# Altium footprint library MKE18F512VLH16.PcbLib: 3 footprints
Each footprint in its own frame and in the unit in brackets; x right, y up, seen from the top. Pads: shape width x height; smd on the part's side, far side on the other; paste and mask are expansions set on the pad; w line width, h text height; cw(c..) or ccw(c..) is an arc to the next point about the centre after c.
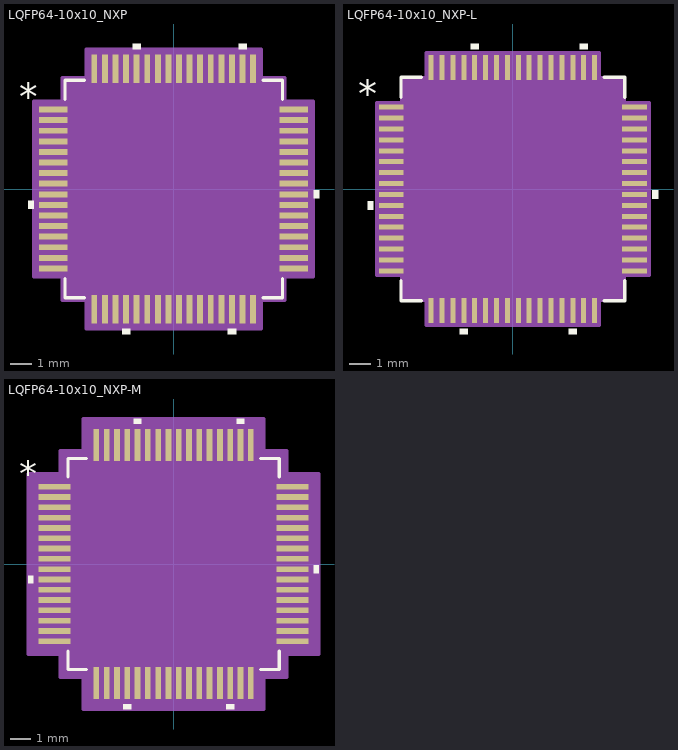
[diagram p0: the footprints below, top view; thin cyan lines are the x and y axes]

## LQFP64-10x10_NXP [mil]
pads (64):
  rect 53x11 smd paste+0 mask+0: 1(-223.5,147.64) 2(-223.5,127.95) 3(-223.5,108.27) 4(-223.5,88.58) 5(-223.5,68.9) 6(-223.5,49.21) 7(-223.5,29.53) 8(-223.5,9.84) 9(-223.5,-9.84) 10(-223.5,-29.53) 11(-223.5,-49.21) 12(-223.5,-68.9) 13(-223.5,-88.58) 14(-223.5,-108.27) 15(-223.5,-127.95) 16(-223.5,-147.64) 33(223.5,-147.64) 34(223.5,-127.95) 35(223.5,-108.27) 36(223.5,-88.58) 37(223.5,-68.9) 38(223.5,-49.21) 39(223.5,-29.53) 40(223.5,-9.84) 41(223.5,9.84) 42(223.5,29.53) 43(223.5,49.21) 44(223.5,68.9) 45(223.5,88.58) 46(223.5,108.27) 47(223.5,127.95) 48(223.5,147.64)
  rect 11x53 smd paste+0 mask+0: 17(-147.64,-223.5) 18(-127.95,-223.5) 19(-108.27,-223.5) 20(-88.58,-223.5) 21(-68.9,-223.5) 22(-49.21,-223.5) 23(-29.53,-223.5) 24(-9.84,-223.5) 25(9.84,-223.5) 26(29.53,-223.5) 27(49.21,-223.5) 28(68.9,-223.5) 29(88.58,-223.5) 30(108.27,-223.5) 31(127.95,-223.5) 32(147.64,-223.5) 49(147.64,223.5) 50(127.95,223.5) 51(108.27,223.5) 52(88.58,223.5) 53(68.9,223.5) 54(49.21,223.5) 55(29.53,223.5) 56(9.84,223.5) 57(-9.84,223.5) 58(-29.53,223.5) 59(-49.21,223.5) 60(-68.9,223.5) 61(-88.58,223.5) 62(-108.27,223.5) 63(-127.95,223.5) 64(-147.64,223.5)
Top Overlay:
  region: -260,-22.03 -270,-22.03 -270,-37.03 -260,-37.03
  region: -81.08,-260 -96.08,-260 -96.08,-270 -81.08,-270
  region: 115.77,-260 100.77,-260 100.77,-270 115.77,-270
  region: 260,-2.34 270,-2.34 270,-17.34 260,-17.34
  region: 135.45,260 120.45,260 120.45,270 135.45,270
  region: -61.4,260 -76.4,260 -76.4,270 -61.4,270
  lines w6: -202,-166.24 -202,-202 -166.24,-202 ; -202,166.24 -202,202 -166.24,202 ; 166.24,-202 202,-202 202,-166.24 ; 166.24,202 202,202 202,166.24
  text "*" at -287.5,147.48 h50
Mechanical 13:
  drawing of 265 lines, arcs and shapes, not listed
  text "*" at -194.5,132.48 h50
Mechanical 15:
  region: -163.14,-207 -207,-207 -207,-163.14 -260,-163.14 -260,163.14 -207,163.14 -207,207 -163.14,207 -163.14,260 163.14,260 163.14,207 207,207 207,163.14 260,163.14 260,-163.14 207,-163.14 207,-207 163.14,-207 163.14,-260 -163.14,-260
  lines w6: -260,-163.14 -207,-163.14 -207,-207 -163.14,-207 -163.14,-260 163.14,-260 163.14,-207 207,-207 207,-163.14 260,-163.14 260,163.14 207,163.14 207,207 163.14,207 163.14,260 -163.14,260 -163.14,207 -207,207 -207,163.14 -260,163.14 -260,-163.14
3D body "LQFP64-10x10_NXP.step": height 63.11, standoff 0, extent -235.98,-235.98 235.98,235.98

## LQFP64-10x10_NXP-L [mil]
pads (64):
  rect 45x9 smd paste+0 mask+0: 1(-219.5,147.64) 2(-219.5,127.95) 3(-219.5,108.27) 4(-219.5,88.58) 5(-219.5,68.9) 6(-219.5,49.21) 7(-219.5,29.53) 8(-219.5,9.84) 9(-219.5,-9.84) 10(-219.5,-29.53) 11(-219.5,-49.21) 12(-219.5,-68.9) 13(-219.5,-88.58) 14(-219.5,-108.27) 15(-219.5,-127.95) 16(-219.5,-147.64) 33(219.5,-147.64) 34(219.5,-127.95) 35(219.5,-108.27) 36(219.5,-88.58) 37(219.5,-68.9) 38(219.5,-49.21) 39(219.5,-29.53) 40(219.5,-9.84) 41(219.5,9.84) 42(219.5,29.53) 43(219.5,49.21) 44(219.5,68.9) 45(219.5,88.58) 46(219.5,108.27) 47(219.5,127.95) 48(219.5,147.64)
  rect 9x45 smd paste+0 mask+0: 17(-147.64,-219.5) 18(-127.95,-219.5) 19(-108.27,-219.5) 20(-88.58,-219.5) 21(-68.9,-219.5) 22(-49.21,-219.5) 23(-29.53,-219.5) 24(-9.84,-219.5) 25(9.84,-219.5) 26(29.53,-219.5) 27(49.21,-219.5) 28(68.9,-219.5) 29(88.58,-219.5) 30(108.27,-219.5) 31(127.95,-219.5) 32(147.64,-219.5) 49(147.64,219.5) 50(127.95,219.5) 51(108.27,219.5) 52(88.58,219.5) 53(68.9,219.5) 54(49.21,219.5) 55(29.53,219.5) 56(9.84,219.5) 57(-9.84,219.5) 58(-29.53,219.5) 59(-49.21,219.5) 60(-68.9,219.5) 61(-88.58,219.5) 62(-108.27,219.5) 63(-127.95,219.5) 64(-147.64,219.5)
Top Overlay:
  region: -252,-22.03 -262,-22.03 -262,-37.03 -252,-37.03
  region: -81.08,-252 -96.08,-252 -96.08,-262 -81.08,-262
  region: 115.77,-252 100.77,-252 100.77,-262 115.77,-262
  region: 252,-2.34 262,-2.34 262,-17.34 252,-17.34
  region: 135.45,252 120.45,252 120.45,262 135.45,262
  region: -61.4,252 -76.4,252 -76.4,262 -61.4,262
  lines w6: -202,-165.24 -202,-202 -165.24,-202 ; -202,165.24 -202,202 -165.24,202 ; 165.24,-202 202,-202 202,-165.24 ; 165.24,202 202,202 202,165.24
  text "*" at -279.5,147.48 h50
Mechanical 13:
  drawing of 261 lines, arcs and shapes, not listed
  text "*" at -194.5,132.48 h50
Mechanical 15:
  region: -156.14,-201 -201,-201 -201,-156.14 -246,-156.14 -246,156.14 -201,156.14 -201,201 -156.14,201 -156.14,246 156.14,246 156.14,201 201,201 201,156.14 246,156.14 246,-156.14 201,-156.14 201,-201 156.14,-201 156.14,-246 -156.14,-246
  lines w6: -246,-156.14 -201,-156.14 -201,-201 -156.14,-201 -156.14,-246 156.14,-246 156.14,-201 201,-201 201,-156.14 246,-156.14 246,156.14 201,156.14 201,201 156.14,201 156.14,246 -156.14,246 -156.14,201 -201,201 -201,156.14 -246,156.14 -246,-156.14
3D body "LQFP64-10x10_NXP.step": height 63.11, standoff 0, extent -235.98,-235.98 235.98,235.98

## LQFP64-10x10_NXP-M [mil]
pads (64):
  rect 61x11 smd paste+0 mask+0: 1(-227.5,147.64) 2(-227.5,127.95) 3(-227.5,108.27) 4(-227.5,88.58) 5(-227.5,68.9) 6(-227.5,49.21) 7(-227.5,29.53) 8(-227.5,9.84) 9(-227.5,-9.84) 10(-227.5,-29.53) 11(-227.5,-49.21) 12(-227.5,-68.9) 13(-227.5,-88.58) 14(-227.5,-108.27) 15(-227.5,-127.95) 16(-227.5,-147.64) 33(227.5,-147.64) 34(227.5,-127.95) 35(227.5,-108.27) 36(227.5,-88.58) 37(227.5,-68.9) 38(227.5,-49.21) 39(227.5,-29.53) 40(227.5,-9.84) 41(227.5,9.84) 42(227.5,29.53) 43(227.5,49.21) 44(227.5,68.9) 45(227.5,88.58) 46(227.5,108.27) 47(227.5,127.95) 48(227.5,147.64)
  rect 11x61 smd paste+0 mask+0: 17(-147.64,-227.5) 18(-127.95,-227.5) 19(-108.27,-227.5) 20(-88.58,-227.5) 21(-68.9,-227.5) 22(-49.21,-227.5) 23(-29.53,-227.5) 24(-9.84,-227.5) 25(9.84,-227.5) 26(29.53,-227.5) 27(49.21,-227.5) 28(68.9,-227.5) 29(88.58,-227.5) 30(108.27,-227.5) 31(127.95,-227.5) 32(147.64,-227.5) 49(147.64,227.5) 50(127.95,227.5) 51(108.27,227.5) 52(88.58,227.5) 53(68.9,227.5) 54(49.21,227.5) 55(29.53,227.5) 56(9.84,227.5) 57(-9.84,227.5) 58(-29.53,227.5) 59(-49.21,227.5) 60(-68.9,227.5) 61(-88.58,227.5) 62(-108.27,227.5) 63(-127.95,227.5) 64(-147.64,227.5)
Top Overlay:
  region: -268,-22.03 -278,-22.03 -278,-37.03 -268,-37.03
  region: -81.08,-268 -96.08,-268 -96.08,-278 -81.08,-278
  region: 115.77,-268 100.77,-268 100.77,-278 115.77,-278
  region: 268,-2.34 278,-2.34 278,-17.34 268,-17.34
  region: 135.45,268 120.45,268 120.45,278 135.45,278
  region: -61.4,268 -76.4,268 -76.4,278 -61.4,278
  lines w6: -202,-166.24 -202,-202 -166.24,-202 ; -202,166.24 -202,202 -166.24,202 ; 166.24,-202 202,-202 202,-166.24 ; 166.24,202 202,202 202,166.24
  text "*" at -295.5,147.48 h50
Mechanical 13:
  drawing of 261 lines, arcs and shapes, not listed
  text "*" at -194.5,132.48 h50
Mechanical 15:
  region: -173.14,-217 -217,-217 -217,-173.14 -278,-173.14 -278,173.14 -217,173.14 -217,217 -173.14,217 -173.14,278 173.14,278 173.14,217 217,217 217,173.14 278,173.14 278,-173.14 217,-173.14 217,-217 173.14,-217 173.14,-278 -173.14,-278
  lines w6: -278,-173.14 -217,-173.14 -217,-217 -173.14,-217 -173.14,-278 173.14,-278 173.14,-217 217,-217 217,-173.14 278,-173.14 278,173.14 217,173.14 217,217 173.14,217 173.14,278 -173.14,278 -173.14,217 -217,217 -217,173.14 -278,173.14 -278,-173.14
3D body "LQFP64-10x10_NXP.step": height 63.11, standoff 0, extent -235.98,-235.98 235.98,235.98